# Altium schematic symbol library RC0603.SchLib: 789 symbols (part 5 of 11)
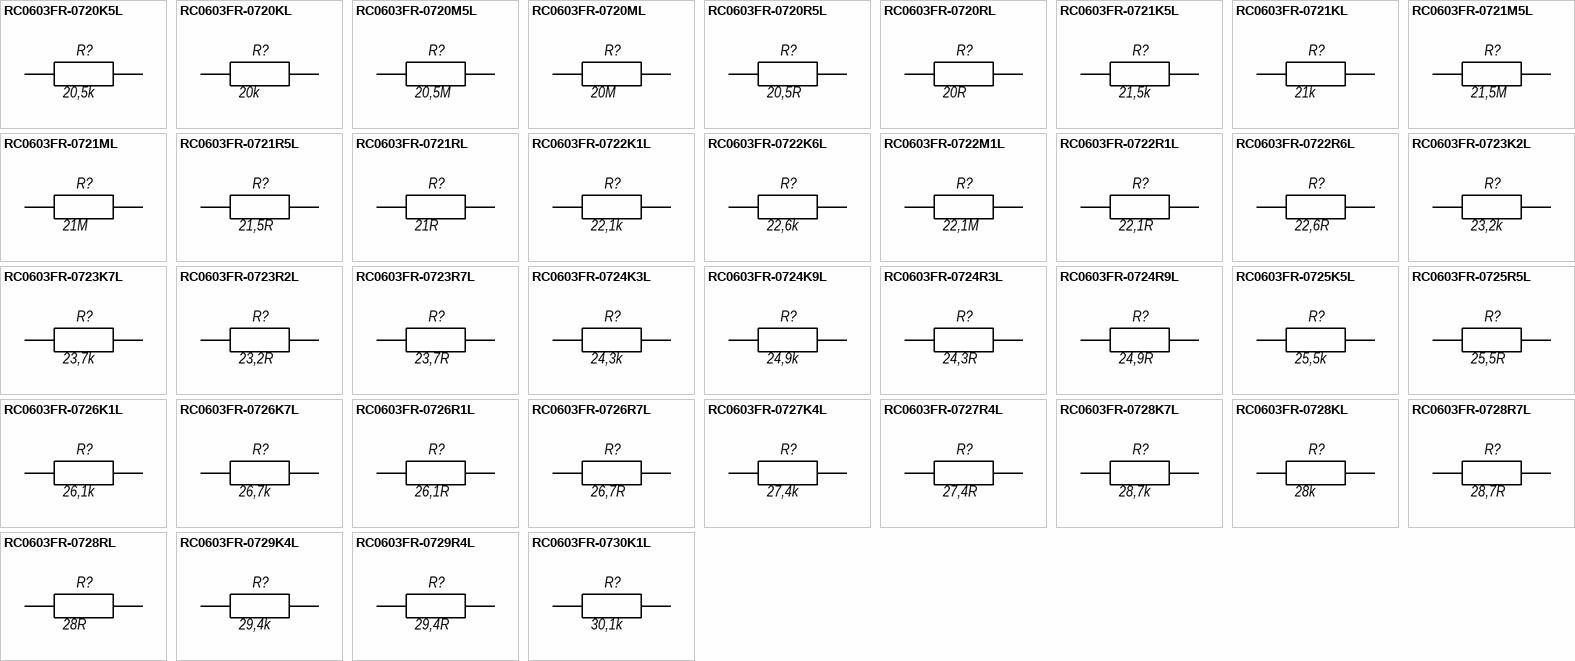
[diagram p23: symbols RC0603FR-0720K5L to RC0603FR-0730K1L]

## RC0603FR-0726R1L
designator R?, comment 26,1R
RC0603FR-0726R1L 0603 26.1 Ohm ±1% 1/10W 0603 SMD -55C...+155C; Manufacturer: Yageo; BOM2: 26,1 Ом ±1%, 1/10 Вт, SMD 0603, RC0603FR-0726R1L; ValueBOM: RC0603FR-0726R1L   Yageo                            (26,1 Ом ±1%, 1/10 Вт, SMD 0603, RC0603FR-0726R1L); Value: 26,1R; Part Number: RC0603FR-0726R1L; Package: 0603; BOM1: 26.1 Ohm ±1% 1/10W 0603 SMD
footprint RESC_0603_1608N (Chip Resistor, Body 1.6x0.8mm, IPC Medium Density)
footprint RESC_0603_1608M (Chip Resistor, Body 1.6x0.8mm, IPC Low Density)
footprint RESC_0603_1608L (Chip Resistor, Body 1.6x0.8mm, IPC High Density)
pins: 1, 2

## RC0603FR-0726R7L
designator R?, comment 26,7R
RC0603FR-0726R7L 0603 26.7 Ohm ±1% 1/10W 0603 SMD -55C...+155C; Manufacturer: Yageo; BOM2: 26,7 Ом ±1%, 1/10 Вт, SMD 0603, RC0603FR-0726R7L; ValueBOM: RC0603FR-0726R7L   Yageo                            (26,7 Ом ±1%, 1/10 Вт, SMD 0603, RC0603FR-0726R7L); Value: 26,7R; Part Number: RC0603FR-0726R7L; Package: 0603; BOM1: 26.7 Ohm ±1% 1/10W 0603 SMD
footprint RESC_0603_1608N (Chip Resistor, Body 1.6x0.8mm, IPC Medium Density)
footprint RESC_0603_1608M (Chip Resistor, Body 1.6x0.8mm, IPC Low Density)
footprint RESC_0603_1608L (Chip Resistor, Body 1.6x0.8mm, IPC High Density)
pins: 1, 2

## RC0603FR-0727K4L
designator R?, comment 27,4k
RC0603FR-0727K4L 0603 27.4 kOhm ±1% 1/10W 0603 SMD -55C...+155C; Manufacturer: Yageo; BOM2: 27,4 кОм ±1%, 1/10 Вт, SMD 0603, RC0603FR-0727K4L; ValueBOM: RC0603FR-0727K4L   Yageo                            (27,4 кОм ±1%, 1/10 Вт, SMD 0603, RC0603FR-0727K4L); Value: 27,4k; Part Number: RC0603FR-0727K4L; Package: 0603; BOM1: 27.4 kOhm ±1% 1/10W 0603 SMD
footprint RESC_0603_1608N (Chip Resistor, Body 1.6x0.8mm, IPC Medium Density)
footprint RESC_0603_1608M (Chip Resistor, Body 1.6x0.8mm, IPC Low Density)
footprint RESC_0603_1608L (Chip Resistor, Body 1.6x0.8mm, IPC High Density)
pins: 1, 2

## RC0603FR-0727R4L
designator R?, comment 27,4R
RC0603FR-0727R4L 0603 27.4 Ohm ±1% 1/10W 0603 SMD -55C...+155C; Manufacturer: Yageo; BOM2: 27,4 Ом ±1%, 1/10 Вт, SMD 0603, RC0603FR-0727R4L; ValueBOM: RC0603FR-0727R4L   Yageo                            (27,4 Ом ±1%, 1/10 Вт, SMD 0603, RC0603FR-0727R4L); Value: 27,4R; Part Number: RC0603FR-0727R4L; Package: 0603; BOM1: 27.4 Ohm ±1% 1/10W 0603 SMD
footprint RESC_0603_1608N (Chip Resistor, Body 1.6x0.8mm, IPC Medium Density)
footprint RESC_0603_1608M (Chip Resistor, Body 1.6x0.8mm, IPC Low Density)
footprint RESC_0603_1608L (Chip Resistor, Body 1.6x0.8mm, IPC High Density)
pins: 1, 2

## RC0603FR-0728K7L
designator R?, comment 28,7k
RC0603FR-0728K7L 0603 28.7 kOhm ±1% 1/10W 0603 SMD -55C...+155C; Manufacturer: Yageo; BOM2: 28,7 кОм ±1%, 1/10 Вт, SMD 0603, RC0603FR-0728K7L; ValueBOM: RC0603FR-0728K7L   Yageo                            (28,7 кОм ±1%, 1/10 Вт, SMD 0603, RC0603FR-0728K7L); Value: 28,7k; Part Number: RC0603FR-0728K7L; Package: 0603; BOM1: 28.7 kOhm ±1% 1/10W 0603 SMD
footprint RESC_0603_1608N (Chip Resistor, Body 1.6x0.8mm, IPC Medium Density)
footprint RESC_0603_1608M (Chip Resistor, Body 1.6x0.8mm, IPC Low Density)
footprint RESC_0603_1608L (Chip Resistor, Body 1.6x0.8mm, IPC High Density)
pins: 1, 2

## RC0603FR-0728KL
designator R?, comment 28k
RC0603FR-0728KL 0603 28 kOhm ±1% 1/10W 0603 SMD -55C...+155C; Manufacturer: Yageo; BOM2: 28 кОм ±1%, 1/10 Вт, SMD 0603, RC0603FR-0728KL; ValueBOM: RC0603FR-0728KL   Yageo                            (28 кОм ±1%, 1/10 Вт, SMD 0603, RC0603FR-0728KL); Value: 28k; Part Number: RC0603FR-0728KL; Package: 0603; BOM1: 28 kOhm ±1% 1/10W 0603 SMD
footprint RESC_0603_1608N (Chip Resistor, Body 1.6x0.8mm, IPC Medium Density)
footprint RESC_0603_1608M (Chip Resistor, Body 1.6x0.8mm, IPC Low Density)
footprint RESC_0603_1608L (Chip Resistor, Body 1.6x0.8mm, IPC High Density)
pins: 1, 2

## RC0603FR-0728R7L
designator R?, comment 28,7R
RC0603FR-0728R7L 0603 28.7 Ohm ±1% 1/10W 0603 SMD -55C...+155C; Manufacturer: Yageo; BOM2: 28,7 Ом ±1%, 1/10 Вт, SMD 0603, RC0603FR-0728R7L; ValueBOM: RC0603FR-0728R7L   Yageo                            (28,7 Ом ±1%, 1/10 Вт, SMD 0603, RC0603FR-0728R7L); Value: 28,7R; Part Number: RC0603FR-0728R7L; Package: 0603; BOM1: 28.7 Ohm ±1% 1/10W 0603 SMD
footprint RESC_0603_1608N (Chip Resistor, Body 1.6x0.8mm, IPC Medium Density)
footprint RESC_0603_1608M (Chip Resistor, Body 1.6x0.8mm, IPC Low Density)
footprint RESC_0603_1608L (Chip Resistor, Body 1.6x0.8mm, IPC High Density)
pins: 1, 2

## RC0603FR-0728RL
designator R?, comment 28R
RC0603FR-0728RL 0603 28 Ohm ±1% 1/10W 0603 SMD -55C...+155C; Manufacturer: Yageo; BOM2: 28 Ом ±1%, 1/10 Вт, SMD 0603, RC0603FR-0728RL; ValueBOM: RC0603FR-0728RL   Yageo                            (28 Ом ±1%, 1/10 Вт, SMD 0603, RC0603FR-0728RL); Value: 28R; Part Number: RC0603FR-0728RL; Package: 0603; BOM1: 28 Ohm ±1% 1/10W 0603 SMD
footprint RESC_0603_1608N (Chip Resistor, Body 1.6x0.8mm, IPC Medium Density)
footprint RESC_0603_1608M (Chip Resistor, Body 1.6x0.8mm, IPC Low Density)
footprint RESC_0603_1608L (Chip Resistor, Body 1.6x0.8mm, IPC High Density)
pins: 1, 2

## RC0603FR-0729K4L
designator R?, comment 29,4k
RC0603FR-0729K4L 0603 29.4 kOhm ±1% 1/10W 0603 SMD -55C...+155C; Manufacturer: Yageo; BOM2: 29,4 кОм ±1%, 1/10 Вт, SMD 0603, RC0603FR-0729K4L; ValueBOM: RC0603FR-0729K4L   Yageo                            (29,4 кОм ±1%, 1/10 Вт, SMD 0603, RC0603FR-0729K4L); Value: 29,4k; Part Number: RC0603FR-0729K4L; Package: 0603; BOM1: 29.4 kOhm ±1% 1/10W 0603 SMD
footprint RESC_0603_1608N (Chip Resistor, Body 1.6x0.8mm, IPC Medium Density)
footprint RESC_0603_1608M (Chip Resistor, Body 1.6x0.8mm, IPC Low Density)
footprint RESC_0603_1608L (Chip Resistor, Body 1.6x0.8mm, IPC High Density)
pins: 1, 2

## RC0603FR-0729R4L
designator R?, comment 29,4R
RC0603FR-0729R4L 0603 29.4 Ohm ±1% 1/10W 0603 SMD -55C...+155C; Manufacturer: Yageo; BOM2: 29,4 Ом ±1%, 1/10 Вт, SMD 0603, RC0603FR-0729R4L; ValueBOM: RC0603FR-0729R4L   Yageo                            (29,4 Ом ±1%, 1/10 Вт, SMD 0603, RC0603FR-0729R4L); Value: 29,4R; Part Number: RC0603FR-0729R4L; Package: 0603; BOM1: 29.4 Ohm ±1% 1/10W 0603 SMD
footprint RESC_0603_1608N (Chip Resistor, Body 1.6x0.8mm, IPC Medium Density)
footprint RESC_0603_1608M (Chip Resistor, Body 1.6x0.8mm, IPC Low Density)
footprint RESC_0603_1608L (Chip Resistor, Body 1.6x0.8mm, IPC High Density)
pins: 1, 2

## RC0603FR-0730K1L
designator R?, comment 30,1k
RC0603FR-0730K1L 0603 30.1 kOhm ±1% 1/10W 0603 SMD -55C...+155C; Manufacturer: Yageo; BOM2: 30,1 кОм ±1%, 1/10 Вт, SMD 0603, RC0603FR-0730K1L; ValueBOM: RC0603FR-0730K1L   Yageo                            (30,1 кОм ±1%, 1/10 Вт, SMD 0603, RC0603FR-0730K1L); Value: 30,1k; Part Number: RC0603FR-0730K1L; Package: 0603; BOM1: 30.1 kOhm ±1% 1/10W 0603 SMD
footprint RESC_0603_1608N (Chip Resistor, Body 1.6x0.8mm, IPC Medium Density)
footprint RESC_0603_1608M (Chip Resistor, Body 1.6x0.8mm, IPC Low Density)
footprint RESC_0603_1608L (Chip Resistor, Body 1.6x0.8mm, IPC High Density)
pins: 1, 2

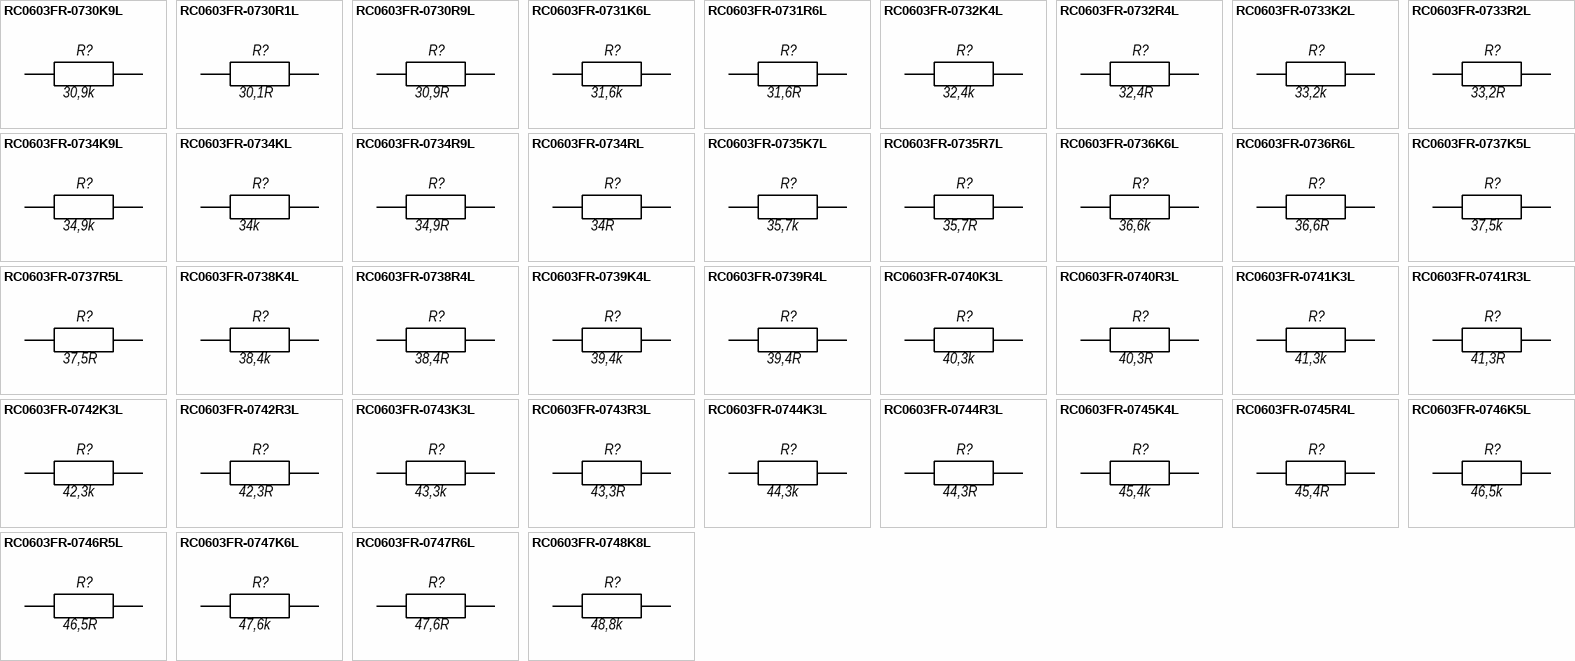
[diagram p8: symbols RC0603FR-0730K9L to RC0603FR-0748K8L]

## RC0603FR-0730K9L
designator R?, comment 30,9k
RC0603FR-0730K9L 0603 30.9 kOhm ±1% 1/10W 0603 SMD -55C...+155C; Manufacturer: Yageo; BOM2: 30,9 кОм ±1%, 1/10 Вт, SMD 0603, RC0603FR-0730K9L; ValueBOM: RC0603FR-0730K9L   Yageo                            (30,9 кОм ±1%, 1/10 Вт, SMD 0603, RC0603FR-0730K9L); Value: 30,9k; Part Number: RC0603FR-0730K9L; Package: 0603; BOM1: 30.9 kOhm ±1% 1/10W 0603 SMD
footprint RESC_0603_1608N (Chip Resistor, Body 1.6x0.8mm, IPC Medium Density)
footprint RESC_0603_1608M (Chip Resistor, Body 1.6x0.8mm, IPC Low Density)
footprint RESC_0603_1608L (Chip Resistor, Body 1.6x0.8mm, IPC High Density)
pins: 1, 2

## RC0603FR-0730R1L
designator R?, comment 30,1R
RC0603FR-0730R1L 0603 30.1 Ohm ±1% 1/10W 0603 SMD -55C...+155C; Manufacturer: Yageo; BOM2: 30,1 Ом ±1%, 1/10 Вт, SMD 0603, RC0603FR-0730R1L; ValueBOM: RC0603FR-0730R1L   Yageo                            (30,1 Ом ±1%, 1/10 Вт, SMD 0603, RC0603FR-0730R1L); Value: 30,1R; Part Number: RC0603FR-0730R1L; Package: 0603; BOM1: 30.1 Ohm ±1% 1/10W 0603 SMD
footprint RESC_0603_1608N (Chip Resistor, Body 1.6x0.8mm, IPC Medium Density)
footprint RESC_0603_1608M (Chip Resistor, Body 1.6x0.8mm, IPC Low Density)
footprint RESC_0603_1608L (Chip Resistor, Body 1.6x0.8mm, IPC High Density)
pins: 1, 2

## RC0603FR-0730R9L
designator R?, comment 30,9R
RC0603FR-0730R9L 0603 30.9 Ohm ±1% 1/10W 0603 SMD -55C...+155C; Manufacturer: Yageo; BOM2: 30,9 Ом ±1%, 1/10 Вт, SMD 0603, RC0603FR-0730R9L; ValueBOM: RC0603FR-0730R9L   Yageo                            (30,9 Ом ±1%, 1/10 Вт, SMD 0603, RC0603FR-0730R9L); Value: 30,9R; Part Number: RC0603FR-0730R9L; Package: 0603; BOM1: 30.9 Ohm ±1% 1/10W 0603 SMD
footprint RESC_0603_1608N (Chip Resistor, Body 1.6x0.8mm, IPC Medium Density)
footprint RESC_0603_1608M (Chip Resistor, Body 1.6x0.8mm, IPC Low Density)
footprint RESC_0603_1608L (Chip Resistor, Body 1.6x0.8mm, IPC High Density)
pins: 1, 2

## RC0603FR-0731K6L
designator R?, comment 31,6k
RC0603FR-0731K6L 0603 31.6 kOhm ±1% 1/10W 0603 SMD -55C...+155C; Manufacturer: Yageo; BOM2: 31,6 кОм ±1%, 1/10 Вт, SMD 0603, RC0603FR-0731K6L; ValueBOM: RC0603FR-0731K6L   Yageo                            (31,6 кОм ±1%, 1/10 Вт, SMD 0603, RC0603FR-0731K6L); Value: 31,6k; Part Number: RC0603FR-0731K6L; Package: 0603; BOM1: 31.6 kOhm ±1% 1/10W 0603 SMD
footprint RESC_0603_1608N (Chip Resistor, Body 1.6x0.8mm, IPC Medium Density)
footprint RESC_0603_1608M (Chip Resistor, Body 1.6x0.8mm, IPC Low Density)
footprint RESC_0603_1608L (Chip Resistor, Body 1.6x0.8mm, IPC High Density)
pins: 1, 2

## RC0603FR-0731R6L
designator R?, comment 31,6R
RC0603FR-0731R6L 0603 31.6 Ohm ±1% 1/10W 0603 SMD -55C...+155C; Manufacturer: Yageo; BOM2: 31,6 Ом ±1%, 1/10 Вт, SMD 0603, RC0603FR-0731R6L; ValueBOM: RC0603FR-0731R6L   Yageo                            (31,6 Ом ±1%, 1/10 Вт, SMD 0603, RC0603FR-0731R6L); Value: 31,6R; Part Number: RC0603FR-0731R6L; Package: 0603; BOM1: 31.6 Ohm ±1% 1/10W 0603 SMD
footprint RESC_0603_1608N (Chip Resistor, Body 1.6x0.8mm, IPC Medium Density)
footprint RESC_0603_1608M (Chip Resistor, Body 1.6x0.8mm, IPC Low Density)
footprint RESC_0603_1608L (Chip Resistor, Body 1.6x0.8mm, IPC High Density)
pins: 1, 2

## RC0603FR-0732K4L
designator R?, comment 32,4k
RC0603FR-0732K4L 0603 32.4 kOhm ±1% 1/10W 0603 SMD -55C...+155C; Manufacturer: Yageo; BOM2: 32,4 кОм ±1%, 1/10 Вт, SMD 0603, RC0603FR-0732K4L; ValueBOM: RC0603FR-0732K4L   Yageo                            (32,4 кОм ±1%, 1/10 Вт, SMD 0603, RC0603FR-0732K4L); Value: 32,4k; Part Number: RC0603FR-0732K4L; Package: 0603; BOM1: 32.4 kOhm ±1% 1/10W 0603 SMD
footprint RESC_0603_1608N (Chip Resistor, Body 1.6x0.8mm, IPC Medium Density)
footprint RESC_0603_1608M (Chip Resistor, Body 1.6x0.8mm, IPC Low Density)
footprint RESC_0603_1608L (Chip Resistor, Body 1.6x0.8mm, IPC High Density)
pins: 1, 2

## RC0603FR-0732R4L
designator R?, comment 32,4R
RC0603FR-0732R4L 0603 32.4 Ohm ±1% 1/10W 0603 SMD -55C...+155C; Manufacturer: Yageo; BOM2: 32,4 Ом ±1%, 1/10 Вт, SMD 0603, RC0603FR-0732R4L; ValueBOM: RC0603FR-0732R4L   Yageo                            (32,4 Ом ±1%, 1/10 Вт, SMD 0603, RC0603FR-0732R4L); Value: 32,4R; Part Number: RC0603FR-0732R4L; Package: 0603; BOM1: 32.4 Ohm ±1% 1/10W 0603 SMD
footprint RESC_0603_1608N (Chip Resistor, Body 1.6x0.8mm, IPC Medium Density)
footprint RESC_0603_1608M (Chip Resistor, Body 1.6x0.8mm, IPC Low Density)
footprint RESC_0603_1608L (Chip Resistor, Body 1.6x0.8mm, IPC High Density)
pins: 1, 2

## RC0603FR-0733K2L
designator R?, comment 33,2k
RC0603FR-0733K2L 0603 33.2 kOhm ±1% 1/10W 0603 SMD -55C...+155C; Manufacturer: Yageo; BOM2: 33,2 кОм ±1%, 1/10 Вт, SMD 0603, RC0603FR-0733K2L; ValueBOM: RC0603FR-0733K2L   Yageo                            (33,2 кОм ±1%, 1/10 Вт, SMD 0603, RC0603FR-0733K2L); Value: 33,2k; Part Number: RC0603FR-0733K2L; Package: 0603; BOM1: 33.2 kOhm ±1% 1/10W 0603 SMD
footprint RESC_0603_1608N (Chip Resistor, Body 1.6x0.8mm, IPC Medium Density)
footprint RESC_0603_1608M (Chip Resistor, Body 1.6x0.8mm, IPC Low Density)
footprint RESC_0603_1608L (Chip Resistor, Body 1.6x0.8mm, IPC High Density)
pins: 1, 2

## RC0603FR-0733R2L
designator R?, comment 33,2R
RC0603FR-0733R2L 0603 33.2 Ohm ±1% 1/10W 0603 SMD -55C...+155C; Manufacturer: Yageo; BOM2: 33,2 Ом ±1%, 1/10 Вт, SMD 0603, RC0603FR-0733R2L; ValueBOM: RC0603FR-0733R2L   Yageo                            (33,2 Ом ±1%, 1/10 Вт, SMD 0603, RC0603FR-0733R2L); Value: 33,2R; Part Number: RC0603FR-0733R2L; Package: 0603; BOM1: 33.2 Ohm ±1% 1/10W 0603 SMD
footprint RESC_0603_1608N (Chip Resistor, Body 1.6x0.8mm, IPC Medium Density)
footprint RESC_0603_1608M (Chip Resistor, Body 1.6x0.8mm, IPC Low Density)
footprint RESC_0603_1608L (Chip Resistor, Body 1.6x0.8mm, IPC High Density)
pins: 1, 2

## RC0603FR-0734K9L
designator R?, comment 34,9k
RC0603FR-0734K9L 0603 34.9 kOhm ±1% 1/10W 0603 SMD -55C...+155C; Manufacturer: Yageo; BOM2: 34,9 кОм ±1%, 1/10 Вт, SMD 0603, RC0603FR-0734K9L; ValueBOM: RC0603FR-0734K9L   Yageo                            (34,9 кОм ±1%, 1/10 Вт, SMD 0603, RC0603FR-0734K9L); Value: 34,9k; Part Number: RC0603FR-0734K9L; Package: 0603; BOM1: 34.9 kOhm ±1% 1/10W 0603 SMD
footprint RESC_0603_1608N (Chip Resistor, Body 1.6x0.8mm, IPC Medium Density)
footprint RESC_0603_1608M (Chip Resistor, Body 1.6x0.8mm, IPC Low Density)
footprint RESC_0603_1608L (Chip Resistor, Body 1.6x0.8mm, IPC High Density)
pins: 1, 2

## RC0603FR-0734KL
designator R?, comment 34k
RC0603FR-0734KL 0603 34 kOhm ±1% 1/10W 0603 SMD -55C...+155C; Manufacturer: Yageo; BOM2: 34 кОм ±1%, 1/10 Вт, SMD 0603, RC0603FR-0734KL; ValueBOM: RC0603FR-0734KL   Yageo                            (34 кОм ±1%, 1/10 Вт, SMD 0603, RC0603FR-0734KL); Value: 34k; Part Number: RC0603FR-0734KL; Package: 0603; BOM1: 34 kOhm ±1% 1/10W 0603 SMD
footprint RESC_0603_1608N (Chip Resistor, Body 1.6x0.8mm, IPC Medium Density)
footprint RESC_0603_1608M (Chip Resistor, Body 1.6x0.8mm, IPC Low Density)
footprint RESC_0603_1608L (Chip Resistor, Body 1.6x0.8mm, IPC High Density)
pins: 1, 2

## RC0603FR-0734R9L
designator R?, comment 34,9R
RC0603FR-0734R9L 0603 34.9 Ohm ±1% 1/10W 0603 SMD -55C...+155C; Manufacturer: Yageo; BOM2: 34,9 Ом ±1%, 1/10 Вт, SMD 0603, RC0603FR-0734R9L; ValueBOM: RC0603FR-0734R9L   Yageo                            (34,9 Ом ±1%, 1/10 Вт, SMD 0603, RC0603FR-0734R9L); Value: 34,9R; Part Number: RC0603FR-0734R9L; Package: 0603; BOM1: 34.9 Ohm ±1% 1/10W 0603 SMD
footprint RESC_0603_1608N (Chip Resistor, Body 1.6x0.8mm, IPC Medium Density)
footprint RESC_0603_1608M (Chip Resistor, Body 1.6x0.8mm, IPC Low Density)
footprint RESC_0603_1608L (Chip Resistor, Body 1.6x0.8mm, IPC High Density)
pins: 1, 2

## RC0603FR-0734RL
designator R?, comment 34R
RC0603FR-0734RL 0603 34 Ohm ±1% 1/10W 0603 SMD -55C...+155C; Manufacturer: Yageo; BOM2: 34 Ом ±1%, 1/10 Вт, SMD 0603, RC0603FR-0734RL; ValueBOM: RC0603FR-0734RL   Yageo                            (34 Ом ±1%, 1/10 Вт, SMD 0603, RC0603FR-0734RL); Value: 34R; Part Number: RC0603FR-0734RL; Package: 0603; BOM1: 34 Ohm ±1% 1/10W 0603 SMD
footprint RESC_0603_1608N (Chip Resistor, Body 1.6x0.8mm, IPC Medium Density)
footprint RESC_0603_1608M (Chip Resistor, Body 1.6x0.8mm, IPC Low Density)
footprint RESC_0603_1608L (Chip Resistor, Body 1.6x0.8mm, IPC High Density)
pins: 1, 2

## RC0603FR-0735K7L
designator R?, comment 35,7k
RC0603FR-0735K7L 0603 35.7 kOhm ±1% 1/10W 0603 SMD -55C...+155C; Manufacturer: Yageo; BOM2: 35,7 кОм ±1%, 1/10 Вт, SMD 0603, RC0603FR-0735K7L; ValueBOM: RC0603FR-0735K7L   Yageo                            (35,7 кОм ±1%, 1/10 Вт, SMD 0603, RC0603FR-0735K7L); Value: 35,7k; Part Number: RC0603FR-0735K7L; Package: 0603; BOM1: 35.7 kOhm ±1% 1/10W 0603 SMD
footprint RESC_0603_1608N (Chip Resistor, Body 1.6x0.8mm, IPC Medium Density)
footprint RESC_0603_1608M (Chip Resistor, Body 1.6x0.8mm, IPC Low Density)
footprint RESC_0603_1608L (Chip Resistor, Body 1.6x0.8mm, IPC High Density)
pins: 1, 2

## RC0603FR-0735R7L
designator R?, comment 35,7R
RC0603FR-0735R7L 0603 35.7 Ohm ±1% 1/10W 0603 SMD -55C...+155C; Manufacturer: Yageo; BOM2: 35,7 Ом ±1%, 1/10 Вт, SMD 0603, RC0603FR-0735R7L; ValueBOM: RC0603FR-0735R7L   Yageo                            (35,7 Ом ±1%, 1/10 Вт, SMD 0603, RC0603FR-0735R7L); Value: 35,7R; Part Number: RC0603FR-0735R7L; Package: 0603; BOM1: 35.7 Ohm ±1% 1/10W 0603 SMD
footprint RESC_0603_1608N (Chip Resistor, Body 1.6x0.8mm, IPC Medium Density)
footprint RESC_0603_1608M (Chip Resistor, Body 1.6x0.8mm, IPC Low Density)
footprint RESC_0603_1608L (Chip Resistor, Body 1.6x0.8mm, IPC High Density)
pins: 1, 2

## RC0603FR-0736K6L
designator R?, comment 36,6k
RC0603FR-0736K6L 0603 36.6 kOhm ±1% 1/10W 0603 SMD -55C...+155C; Manufacturer: Yageo; BOM2: 36,6 кОм ±1%, 1/10 Вт, SMD 0603, RC0603FR-0736K6L; ValueBOM: RC0603FR-0736K6L   Yageo                            (36,6 кОм ±1%, 1/10 Вт, SMD 0603, RC0603FR-0736K6L); Value: 36,6k; Part Number: RC0603FR-0736K6L; Package: 0603; BOM1: 36.6 kOhm ±1% 1/10W 0603 SMD
footprint RESC_0603_1608N (Chip Resistor, Body 1.6x0.8mm, IPC Medium Density)
footprint RESC_0603_1608M (Chip Resistor, Body 1.6x0.8mm, IPC Low Density)
footprint RESC_0603_1608L (Chip Resistor, Body 1.6x0.8mm, IPC High Density)
pins: 1, 2

## RC0603FR-0736R6L
designator R?, comment 36,6R
RC0603FR-0736R6L 0603 36.6 Ohm ±1% 1/10W 0603 SMD -55C...+155C; Manufacturer: Yageo; BOM2: 36,6 Ом ±1%, 1/10 Вт, SMD 0603, RC0603FR-0736R6L; ValueBOM: RC0603FR-0736R6L   Yageo                            (36,6 Ом ±1%, 1/10 Вт, SMD 0603, RC0603FR-0736R6L); Value: 36,6R; Part Number: RC0603FR-0736R6L; Package: 0603; BOM1: 36.6 Ohm ±1% 1/10W 0603 SMD
footprint RESC_0603_1608N (Chip Resistor, Body 1.6x0.8mm, IPC Medium Density)
footprint RESC_0603_1608M (Chip Resistor, Body 1.6x0.8mm, IPC Low Density)
footprint RESC_0603_1608L (Chip Resistor, Body 1.6x0.8mm, IPC High Density)
pins: 1, 2

## RC0603FR-0737K5L
designator R?, comment 37,5k
RC0603FR-0737K5L 0603 37.5 kOhm ±1% 1/10W 0603 SMD -55C...+155C; Manufacturer: Yageo; BOM2: 37,5 кОм ±1%, 1/10 Вт, SMD 0603, RC0603FR-0737K5L; ValueBOM: RC0603FR-0737K5L   Yageo                            (37,5 кОм ±1%, 1/10 Вт, SMD 0603, RC0603FR-0737K5L); Value: 37,5k; Part Number: RC0603FR-0737K5L; Package: 0603; BOM1: 37.5 kOhm ±1% 1/10W 0603 SMD
footprint RESC_0603_1608N (Chip Resistor, Body 1.6x0.8mm, IPC Medium Density)
footprint RESC_0603_1608M (Chip Resistor, Body 1.6x0.8mm, IPC Low Density)
footprint RESC_0603_1608L (Chip Resistor, Body 1.6x0.8mm, IPC High Density)
pins: 1, 2

## RC0603FR-0737R5L
designator R?, comment 37,5R
RC0603FR-0737R5L 0603 37.5 Ohm ±1% 1/10W 0603 SMD -55C...+155C; Manufacturer: Yageo; BOM2: 37,5 Ом ±1%, 1/10 Вт, SMD 0603, RC0603FR-0737R5L; ValueBOM: RC0603FR-0737R5L   Yageo                            (37,5 Ом ±1%, 1/10 Вт, SMD 0603, RC0603FR-0737R5L); Value: 37,5R; Part Number: RC0603FR-0737R5L; Package: 0603; BOM1: 37.5 Ohm ±1% 1/10W 0603 SMD
footprint RESC_0603_1608N (Chip Resistor, Body 1.6x0.8mm, IPC Medium Density)
footprint RESC_0603_1608M (Chip Resistor, Body 1.6x0.8mm, IPC Low Density)
footprint RESC_0603_1608L (Chip Resistor, Body 1.6x0.8mm, IPC High Density)
pins: 1, 2

## RC0603FR-0738K4L
designator R?, comment 38,4k
RC0603FR-0738K4L 0603 38.4 kOhm ±1% 1/10W 0603 SMD -55C...+155C; Manufacturer: Yageo; BOM2: 38,4 кОм ±1%, 1/10 Вт, SMD 0603, RC0603FR-0738K4L; ValueBOM: RC0603FR-0738K4L   Yageo                            (38,4 кОм ±1%, 1/10 Вт, SMD 0603, RC0603FR-0738K4L); Value: 38,4k; Part Number: RC0603FR-0738K4L; Package: 0603; BOM1: 38.4 kOhm ±1% 1/10W 0603 SMD
footprint RESC_0603_1608N (Chip Resistor, Body 1.6x0.8mm, IPC Medium Density)
footprint RESC_0603_1608M (Chip Resistor, Body 1.6x0.8mm, IPC Low Density)
footprint RESC_0603_1608L (Chip Resistor, Body 1.6x0.8mm, IPC High Density)
pins: 1, 2

## RC0603FR-0738R4L
designator R?, comment 38,4R
RC0603FR-0738R4L 0603 38.4 Ohm ±1% 1/10W 0603 SMD -55C...+155C; Manufacturer: Yageo; BOM2: 38,4 Ом ±1%, 1/10 Вт, SMD 0603, RC0603FR-0738R4L; ValueBOM: RC0603FR-0738R4L   Yageo                            (38,4 Ом ±1%, 1/10 Вт, SMD 0603, RC0603FR-0738R4L); Value: 38,4R; Part Number: RC0603FR-0738R4L; Package: 0603; BOM1: 38.4 Ohm ±1% 1/10W 0603 SMD
footprint RESC_0603_1608N (Chip Resistor, Body 1.6x0.8mm, IPC Medium Density)
footprint RESC_0603_1608M (Chip Resistor, Body 1.6x0.8mm, IPC Low Density)
footprint RESC_0603_1608L (Chip Resistor, Body 1.6x0.8mm, IPC High Density)
pins: 1, 2

## RC0603FR-0739K4L
designator R?, comment 39,4k
RC0603FR-0739K4L 0603 39.4 kOhm ±1% 1/10W 0603 SMD -55C...+155C; Manufacturer: Yageo; BOM2: 39,4 кОм ±1%, 1/10 Вт, SMD 0603, RC0603FR-0739K4L; ValueBOM: RC0603FR-0739K4L   Yageo                            (39,4 кОм ±1%, 1/10 Вт, SMD 0603, RC0603FR-0739K4L); Value: 39,4k; Part Number: RC0603FR-0739K4L; Package: 0603; BOM1: 39.4 kOhm ±1% 1/10W 0603 SMD
footprint RESC_0603_1608N (Chip Resistor, Body 1.6x0.8mm, IPC Medium Density)
footprint RESC_0603_1608M (Chip Resistor, Body 1.6x0.8mm, IPC Low Density)
footprint RESC_0603_1608L (Chip Resistor, Body 1.6x0.8mm, IPC High Density)
pins: 1, 2

## RC0603FR-0739R4L
designator R?, comment 39,4R
RC0603FR-0739R4L 0603 39.4 Ohm ±1% 1/10W 0603 SMD -55C...+155C; Manufacturer: Yageo; BOM2: 39,4 Ом ±1%, 1/10 Вт, SMD 0603, RC0603FR-0739R4L; ValueBOM: RC0603FR-0739R4L   Yageo                            (39,4 Ом ±1%, 1/10 Вт, SMD 0603, RC0603FR-0739R4L); Value: 39,4R; Part Number: RC0603FR-0739R4L; Package: 0603; BOM1: 39.4 Ohm ±1% 1/10W 0603 SMD
footprint RESC_0603_1608N (Chip Resistor, Body 1.6x0.8mm, IPC Medium Density)
footprint RESC_0603_1608M (Chip Resistor, Body 1.6x0.8mm, IPC Low Density)
footprint RESC_0603_1608L (Chip Resistor, Body 1.6x0.8mm, IPC High Density)
pins: 1, 2

## RC0603FR-0740K3L
designator R?, comment 40,3k
RC0603FR-0740K3L 0603 40.3 kOhm ±1% 1/10W 0603 SMD -55C...+155C; Manufacturer: Yageo; BOM2: 40,3 кОм ±1%, 1/10 Вт, SMD 0603, RC0603FR-0740K3L; ValueBOM: RC0603FR-0740K3L   Yageo                            (40,3 кОм ±1%, 1/10 Вт, SMD 0603, RC0603FR-0740K3L); Value: 40,3k; Part Number: RC0603FR-0740K3L; Package: 0603; BOM1: 40.3 kOhm ±1% 1/10W 0603 SMD
footprint RESC_0603_1608N (Chip Resistor, Body 1.6x0.8mm, IPC Medium Density)
footprint RESC_0603_1608M (Chip Resistor, Body 1.6x0.8mm, IPC Low Density)
footprint RESC_0603_1608L (Chip Resistor, Body 1.6x0.8mm, IPC High Density)
pins: 1, 2

## RC0603FR-0740R3L
designator R?, comment 40,3R
RC0603FR-0740R3L 0603 40.3 Ohm ±1% 1/10W 0603 SMD -55C...+155C; Manufacturer: Yageo; BOM2: 40,3 Ом ±1%, 1/10 Вт, SMD 0603, RC0603FR-0740R3L; ValueBOM: RC0603FR-0740R3L   Yageo                            (40,3 Ом ±1%, 1/10 Вт, SMD 0603, RC0603FR-0740R3L); Value: 40,3R; Part Number: RC0603FR-0740R3L; Package: 0603; BOM1: 40.3 Ohm ±1% 1/10W 0603 SMD
footprint RESC_0603_1608N (Chip Resistor, Body 1.6x0.8mm, IPC Medium Density)
footprint RESC_0603_1608M (Chip Resistor, Body 1.6x0.8mm, IPC Low Density)
footprint RESC_0603_1608L (Chip Resistor, Body 1.6x0.8mm, IPC High Density)
pins: 1, 2

## RC0603FR-0741K3L
designator R?, comment 41,3k
RC0603FR-0741K3L 0603 41.3 kOhm ±1% 1/10W 0603 SMD -55C...+155C; Manufacturer: Yageo; BOM2: 41,3 кОм ±1%, 1/10 Вт, SMD 0603, RC0603FR-0741K3L; ValueBOM: RC0603FR-0741K3L   Yageo                            (41,3 кОм ±1%, 1/10 Вт, SMD 0603, RC0603FR-0741K3L); Value: 41,3k; Part Number: RC0603FR-0741K3L; Package: 0603; BOM1: 41.3 kOhm ±1% 1/10W 0603 SMD
footprint RESC_0603_1608N (Chip Resistor, Body 1.6x0.8mm, IPC Medium Density)
footprint RESC_0603_1608M (Chip Resistor, Body 1.6x0.8mm, IPC Low Density)
footprint RESC_0603_1608L (Chip Resistor, Body 1.6x0.8mm, IPC High Density)
pins: 1, 2

## RC0603FR-0741R3L
designator R?, comment 41,3R
RC0603FR-0741R3L 0603 41.3 Ohm ±1% 1/10W 0603 SMD -55C...+155C; Manufacturer: Yageo; BOM2: 41,3 Ом ±1%, 1/10 Вт, SMD 0603, RC0603FR-0741R3L; ValueBOM: RC0603FR-0741R3L   Yageo                            (41,3 Ом ±1%, 1/10 Вт, SMD 0603, RC0603FR-0741R3L); Value: 41,3R; Part Number: RC0603FR-0741R3L; Package: 0603; BOM1: 41.3 Ohm ±1% 1/10W 0603 SMD
footprint RESC_0603_1608N (Chip Resistor, Body 1.6x0.8mm, IPC Medium Density)
footprint RESC_0603_1608M (Chip Resistor, Body 1.6x0.8mm, IPC Low Density)
footprint RESC_0603_1608L (Chip Resistor, Body 1.6x0.8mm, IPC High Density)
pins: 1, 2

## RC0603FR-0742K3L
designator R?, comment 42,3k
RC0603FR-0742K3L 0603 42.3 kOhm ±1% 1/10W 0603 SMD -55C...+155C; Manufacturer: Yageo; BOM2: 42,3 кОм ±1%, 1/10 Вт, SMD 0603, RC0603FR-0742K3L; ValueBOM: RC0603FR-0742K3L   Yageo                            (42,3 кОм ±1%, 1/10 Вт, SMD 0603, RC0603FR-0742K3L); Value: 42,3k; Part Number: RC0603FR-0742K3L; Package: 0603; BOM1: 42.3 kOhm ±1% 1/10W 0603 SMD
footprint RESC_0603_1608N (Chip Resistor, Body 1.6x0.8mm, IPC Medium Density)
footprint RESC_0603_1608M (Chip Resistor, Body 1.6x0.8mm, IPC Low Density)
footprint RESC_0603_1608L (Chip Resistor, Body 1.6x0.8mm, IPC High Density)
pins: 1, 2

## RC0603FR-0742R3L
designator R?, comment 42,3R
RC0603FR-0742R3L 0603 42.3 Ohm ±1% 1/10W 0603 SMD -55C...+155C; Manufacturer: Yageo; BOM2: 42,3 Ом ±1%, 1/10 Вт, SMD 0603, RC0603FR-0742R3L; ValueBOM: RC0603FR-0742R3L   Yageo                            (42,3 Ом ±1%, 1/10 Вт, SMD 0603, RC0603FR-0742R3L); Value: 42,3R; Part Number: RC0603FR-0742R3L; Package: 0603; BOM1: 42.3 Ohm ±1% 1/10W 0603 SMD
footprint RESC_0603_1608N (Chip Resistor, Body 1.6x0.8mm, IPC Medium Density)
footprint RESC_0603_1608M (Chip Resistor, Body 1.6x0.8mm, IPC Low Density)
footprint RESC_0603_1608L (Chip Resistor, Body 1.6x0.8mm, IPC High Density)
pins: 1, 2

## RC0603FR-0743K3L
designator R?, comment 43,3k
RC0603FR-0743K3L 0603 43.3 kOhm ±1% 1/10W 0603 SMD -55C...+155C; Manufacturer: Yageo; BOM2: 43,3 кОм ±1%, 1/10 Вт, SMD 0603, RC0603FR-0743K3L; ValueBOM: RC0603FR-0743K3L   Yageo                            (43,3 кОм ±1%, 1/10 Вт, SMD 0603, RC0603FR-0743K3L); Value: 43,3k; Part Number: RC0603FR-0743K3L; Package: 0603; BOM1: 43.3 kOhm ±1% 1/10W 0603 SMD
footprint RESC_0603_1608N (Chip Resistor, Body 1.6x0.8mm, IPC Medium Density)
footprint RESC_0603_1608M (Chip Resistor, Body 1.6x0.8mm, IPC Low Density)
footprint RESC_0603_1608L (Chip Resistor, Body 1.6x0.8mm, IPC High Density)
pins: 1, 2

## RC0603FR-0743R3L
designator R?, comment 43,3R
RC0603FR-0743R3L 0603 43.3 Ohm ±1% 1/10W 0603 SMD -55C...+155C; Manufacturer: Yageo; BOM2: 43,3 Ом ±1%, 1/10 Вт, SMD 0603, RC0603FR-0743R3L; ValueBOM: RC0603FR-0743R3L   Yageo                            (43,3 Ом ±1%, 1/10 Вт, SMD 0603, RC0603FR-0743R3L); Value: 43,3R; Part Number: RC0603FR-0743R3L; Package: 0603; BOM1: 43.3 Ohm ±1% 1/10W 0603 SMD
footprint RESC_0603_1608N (Chip Resistor, Body 1.6x0.8mm, IPC Medium Density)
footprint RESC_0603_1608M (Chip Resistor, Body 1.6x0.8mm, IPC Low Density)
footprint RESC_0603_1608L (Chip Resistor, Body 1.6x0.8mm, IPC High Density)
pins: 1, 2

## RC0603FR-0744K3L
designator R?, comment 44,3k
RC0603FR-0744K3L 0603 44.3 kOhm ±1% 1/10W 0603 SMD -55C...+155C; Manufacturer: Yageo; BOM2: 44,3 кОм ±1%, 1/10 Вт, SMD 0603, RC0603FR-0744K3L; ValueBOM: RC0603FR-0744K3L   Yageo                            (44,3 кОм ±1%, 1/10 Вт, SMD 0603, RC0603FR-0744K3L); Value: 44,3k; Part Number: RC0603FR-0744K3L; Package: 0603; BOM1: 44.3 kOhm ±1% 1/10W 0603 SMD
footprint RESC_0603_1608N (Chip Resistor, Body 1.6x0.8mm, IPC Medium Density)
footprint RESC_0603_1608M (Chip Resistor, Body 1.6x0.8mm, IPC Low Density)
footprint RESC_0603_1608L (Chip Resistor, Body 1.6x0.8mm, IPC High Density)
pins: 1, 2

## RC0603FR-0744R3L
designator R?, comment 44,3R
RC0603FR-0744R3L 0603 44.3 Ohm ±1% 1/10W 0603 SMD -55C...+155C; Manufacturer: Yageo; BOM2: 44,3 Ом ±1%, 1/10 Вт, SMD 0603, RC0603FR-0744R3L; ValueBOM: RC0603FR-0744R3L   Yageo                            (44,3 Ом ±1%, 1/10 Вт, SMD 0603, RC0603FR-0744R3L); Value: 44,3R; Part Number: RC0603FR-0744R3L; Package: 0603; BOM1: 44.3 Ohm ±1% 1/10W 0603 SMD
footprint RESC_0603_1608N (Chip Resistor, Body 1.6x0.8mm, IPC Medium Density)
footprint RESC_0603_1608M (Chip Resistor, Body 1.6x0.8mm, IPC Low Density)
footprint RESC_0603_1608L (Chip Resistor, Body 1.6x0.8mm, IPC High Density)
pins: 1, 2

## RC0603FR-0745K4L
designator R?, comment 45,4k
RC0603FR-0745K4L 0603 45.4 kOhm ±1% 1/10W 0603 SMD -55C...+155C; Manufacturer: Yageo; BOM2: 45,4 кОм ±1%, 1/10 Вт, SMD 0603, RC0603FR-0745K4L; ValueBOM: RC0603FR-0745K4L   Yageo                            (45,4 кОм ±1%, 1/10 Вт, SMD 0603, RC0603FR-0745K4L); Value: 45,4k; Part Number: RC0603FR-0745K4L; Package: 0603; BOM1: 45.4 kOhm ±1% 1/10W 0603 SMD
footprint RESC_0603_1608N (Chip Resistor, Body 1.6x0.8mm, IPC Medium Density)
footprint RESC_0603_1608M (Chip Resistor, Body 1.6x0.8mm, IPC Low Density)
footprint RESC_0603_1608L (Chip Resistor, Body 1.6x0.8mm, IPC High Density)
pins: 1, 2

## RC0603FR-0745R4L
designator R?, comment 45,4R
RC0603FR-0745R4L 0603 45.4 Ohm ±1% 1/10W 0603 SMD -55C...+155C; Manufacturer: Yageo; BOM2: 45,4 Ом ±1%, 1/10 Вт, SMD 0603, RC0603FR-0745R4L; ValueBOM: RC0603FR-0745R4L   Yageo                            (45,4 Ом ±1%, 1/10 Вт, SMD 0603, RC0603FR-0745R4L); Value: 45,4R; Part Number: RC0603FR-0745R4L; Package: 0603; BOM1: 45.4 Ohm ±1% 1/10W 0603 SMD
footprint RESC_0603_1608N (Chip Resistor, Body 1.6x0.8mm, IPC Medium Density)
footprint RESC_0603_1608M (Chip Resistor, Body 1.6x0.8mm, IPC Low Density)
footprint RESC_0603_1608L (Chip Resistor, Body 1.6x0.8mm, IPC High Density)
pins: 1, 2

## RC0603FR-0746K5L
designator R?, comment 46,5k
RC0603FR-0746K5L 0603 46.5 kOhm ±1% 1/10W 0603 SMD -55C...+155C; Manufacturer: Yageo; BOM2: 46,5 кОм ±1%, 1/10 Вт, SMD 0603, RC0603FR-0746K5L; ValueBOM: RC0603FR-0746K5L   Yageo                            (46,5 кОм ±1%, 1/10 Вт, SMD 0603, RC0603FR-0746K5L); Value: 46,5k; Part Number: RC0603FR-0746K5L; Package: 0603; BOM1: 46.5 kOhm ±1% 1/10W 0603 SMD
footprint RESC_0603_1608N (Chip Resistor, Body 1.6x0.8mm, IPC Medium Density)
footprint RESC_0603_1608M (Chip Resistor, Body 1.6x0.8mm, IPC Low Density)
footprint RESC_0603_1608L (Chip Resistor, Body 1.6x0.8mm, IPC High Density)
pins: 1, 2

## RC0603FR-0746R5L
designator R?, comment 46,5R
RC0603FR-0746R5L 0603 46.5 Ohm ±1% 1/10W 0603 SMD -55C...+155C; Manufacturer: Yageo; BOM2: 46,5 Ом ±1%, 1/10 Вт, SMD 0603, RC0603FR-0746R5L; ValueBOM: RC0603FR-0746R5L   Yageo                            (46,5 Ом ±1%, 1/10 Вт, SMD 0603, RC0603FR-0746R5L); Value: 46,5R; Part Number: RC0603FR-0746R5L; Package: 0603; BOM1: 46.5 Ohm ±1% 1/10W 0603 SMD
footprint RESC_0603_1608N (Chip Resistor, Body 1.6x0.8mm, IPC Medium Density)
footprint RESC_0603_1608M (Chip Resistor, Body 1.6x0.8mm, IPC Low Density)
footprint RESC_0603_1608L (Chip Resistor, Body 1.6x0.8mm, IPC High Density)
pins: 1, 2

## RC0603FR-0747K6L
designator R?, comment 47,6k
RC0603FR-0747K6L 0603 47.6 kOhm ±1% 1/10W 0603 SMD -55C...+155C; Manufacturer: Yageo; BOM2: 47,6 кОм ±1%, 1/10 Вт, SMD 0603, RC0603FR-0747K6L; ValueBOM: RC0603FR-0747K6L   Yageo                            (47,6 кОм ±1%, 1/10 Вт, SMD 0603, RC0603FR-0747K6L); Value: 47,6k; Part Number: RC0603FR-0747K6L; Package: 0603; BOM1: 47.6 kOhm ±1% 1/10W 0603 SMD
footprint RESC_0603_1608N (Chip Resistor, Body 1.6x0.8mm, IPC Medium Density)
footprint RESC_0603_1608M (Chip Resistor, Body 1.6x0.8mm, IPC Low Density)
footprint RESC_0603_1608L (Chip Resistor, Body 1.6x0.8mm, IPC High Density)
pins: 1, 2

## RC0603FR-0747R6L
designator R?, comment 47,6R
RC0603FR-0747R6L 0603 47.6 Ohm ±1% 1/10W 0603 SMD -55C...+155C; Manufacturer: Yageo; BOM2: 47,6 Ом ±1%, 1/10 Вт, SMD 0603, RC0603FR-0747R6L; ValueBOM: RC0603FR-0747R6L   Yageo                            (47,6 Ом ±1%, 1/10 Вт, SMD 0603, RC0603FR-0747R6L); Value: 47,6R; Part Number: RC0603FR-0747R6L; Package: 0603; BOM1: 47.6 Ohm ±1% 1/10W 0603 SMD
footprint RESC_0603_1608N (Chip Resistor, Body 1.6x0.8mm, IPC Medium Density)
footprint RESC_0603_1608M (Chip Resistor, Body 1.6x0.8mm, IPC Low Density)
footprint RESC_0603_1608L (Chip Resistor, Body 1.6x0.8mm, IPC High Density)
pins: 1, 2

## RC0603FR-0748K8L
designator R?, comment 48,8k
RC0603FR-0748K8L 0603 48.8 kOhm ±1% 1/10W 0603 SMD -55C...+155C; Manufacturer: Yageo; BOM2: 48,8 кОм ±1%, 1/10 Вт, SMD 0603, RC0603FR-0748K8L; ValueBOM: RC0603FR-0748K8L   Yageo                            (48,8 кОм ±1%, 1/10 Вт, SMD 0603, RC0603FR-0748K8L); Value: 48,8k; Part Number: RC0603FR-0748K8L; Package: 0603; BOM1: 48.8 kOhm ±1% 1/10W 0603 SMD
footprint RESC_0603_1608N (Chip Resistor, Body 1.6x0.8mm, IPC Medium Density)
footprint RESC_0603_1608M (Chip Resistor, Body 1.6x0.8mm, IPC Low Density)
footprint RESC_0603_1608L (Chip Resistor, Body 1.6x0.8mm, IPC High Density)
pins: 1, 2

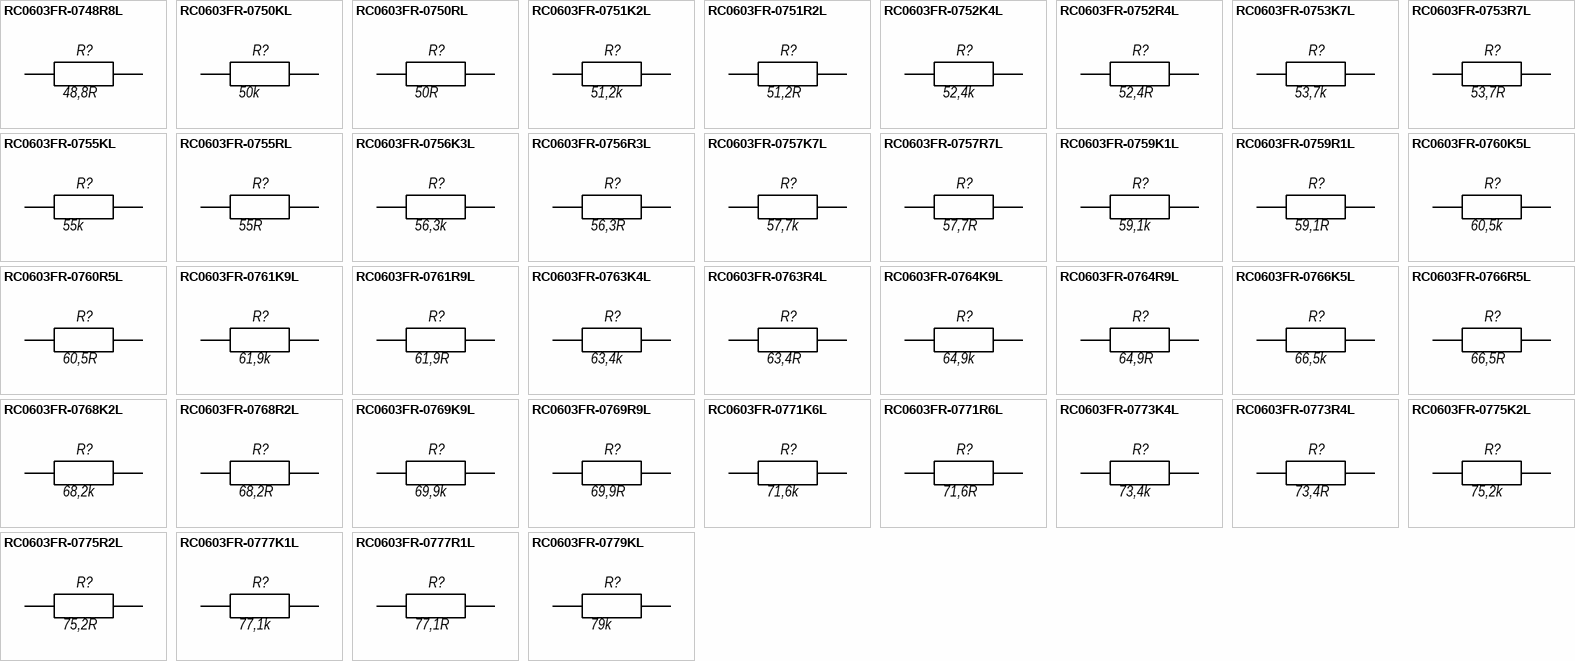
[diagram p9: symbols RC0603FR-0748R8L to RC0603FR-0779KL]

## RC0603FR-0748R8L
designator R?, comment 48,8R
RC0603FR-0748R8L 0603 48.8 Ohm ±1% 1/10W 0603 SMD -55C...+155C; Manufacturer: Yageo; BOM2: 48,8 Ом ±1%, 1/10 Вт, SMD 0603, RC0603FR-0748R8L; ValueBOM: RC0603FR-0748R8L   Yageo                            (48,8 Ом ±1%, 1/10 Вт, SMD 0603, RC0603FR-0748R8L); Value: 48,8R; Part Number: RC0603FR-0748R8L; Package: 0603; BOM1: 48.8 Ohm ±1% 1/10W 0603 SMD
footprint RESC_0603_1608N (Chip Resistor, Body 1.6x0.8mm, IPC Medium Density)
footprint RESC_0603_1608M (Chip Resistor, Body 1.6x0.8mm, IPC Low Density)
footprint RESC_0603_1608L (Chip Resistor, Body 1.6x0.8mm, IPC High Density)
pins: 1, 2

## RC0603FR-0750KL
designator R?, comment 50k
RC0603FR-0750KL 0603 50 kOhm ±1% 1/10W 0603 SMD -55C...+155C; Manufacturer: Yageo; BOM2: 50 кОм ±1%, 1/10 Вт, SMD 0603, RC0603FR-0750KL; ValueBOM: RC0603FR-0750KL   Yageo                            (50 кОм ±1%, 1/10 Вт, SMD 0603, RC0603FR-0750KL); Value: 50k; Part Number: RC0603FR-0750KL; Package: 0603; BOM1: 50 kOhm ±1% 1/10W 0603 SMD
footprint RESC_0603_1608N (Chip Resistor, Body 1.6x0.8mm, IPC Medium Density)
footprint RESC_0603_1608M (Chip Resistor, Body 1.6x0.8mm, IPC Low Density)
footprint RESC_0603_1608L (Chip Resistor, Body 1.6x0.8mm, IPC High Density)
pins: 1, 2

## RC0603FR-0750RL
designator R?, comment 50R
RC0603FR-0750RL 0603 50 Ohm ±1% 1/10W 0603 SMD -55C...+155C; Manufacturer: Yageo; BOM2: 50 Ом ±1%, 1/10 Вт, SMD 0603, RC0603FR-0750RL; ValueBOM: RC0603FR-0750RL   Yageo                            (50 Ом ±1%, 1/10 Вт, SMD 0603, RC0603FR-0750RL); Value: 50R; Part Number: RC0603FR-0750RL; Package: 0603; BOM1: 50 Ohm ±1% 1/10W 0603 SMD
footprint RESC_0603_1608N (Chip Resistor, Body 1.6x0.8mm, IPC Medium Density)
footprint RESC_0603_1608M (Chip Resistor, Body 1.6x0.8mm, IPC Low Density)
footprint RESC_0603_1608L (Chip Resistor, Body 1.6x0.8mm, IPC High Density)
pins: 1, 2

## RC0603FR-0751K2L
designator R?, comment 51,2k
RC0603FR-0751K2L 0603 51.2 kOhm ±1% 1/10W 0603 SMD -55C...+155C; Manufacturer: Yageo; BOM2: 51,2 кОм ±1%, 1/10 Вт, SMD 0603, RC0603FR-0751K2L; ValueBOM: RC0603FR-0751K2L   Yageo                            (51,2 кОм ±1%, 1/10 Вт, SMD 0603, RC0603FR-0751K2L); Value: 51,2k; Part Number: RC0603FR-0751K2L; Package: 0603; BOM1: 51.2 kOhm ±1% 1/10W 0603 SMD
footprint RESC_0603_1608N (Chip Resistor, Body 1.6x0.8mm, IPC Medium Density)
footprint RESC_0603_1608M (Chip Resistor, Body 1.6x0.8mm, IPC Low Density)
footprint RESC_0603_1608L (Chip Resistor, Body 1.6x0.8mm, IPC High Density)
pins: 1, 2

## RC0603FR-0751R2L
designator R?, comment 51,2R
RC0603FR-0751R2L 0603 51.2 Ohm ±1% 1/10W 0603 SMD -55C...+155C; Manufacturer: Yageo; BOM2: 51,2 Ом ±1%, 1/10 Вт, SMD 0603, RC0603FR-0751R2L; ValueBOM: RC0603FR-0751R2L   Yageo                            (51,2 Ом ±1%, 1/10 Вт, SMD 0603, RC0603FR-0751R2L); Value: 51,2R; Part Number: RC0603FR-0751R2L; Package: 0603; BOM1: 51.2 Ohm ±1% 1/10W 0603 SMD
footprint RESC_0603_1608N (Chip Resistor, Body 1.6x0.8mm, IPC Medium Density)
footprint RESC_0603_1608M (Chip Resistor, Body 1.6x0.8mm, IPC Low Density)
footprint RESC_0603_1608L (Chip Resistor, Body 1.6x0.8mm, IPC High Density)
pins: 1, 2

## RC0603FR-0752K4L
designator R?, comment 52,4k
RC0603FR-0752K4L 0603 52.4 kOhm ±1% 1/10W 0603 SMD -55C...+155C; Manufacturer: Yageo; BOM2: 52,4 кОм ±1%, 1/10 Вт, SMD 0603, RC0603FR-0752K4L; ValueBOM: RC0603FR-0752K4L   Yageo                            (52,4 кОм ±1%, 1/10 Вт, SMD 0603, RC0603FR-0752K4L); Value: 52,4k; Part Number: RC0603FR-0752K4L; Package: 0603; BOM1: 52.4 kOhm ±1% 1/10W 0603 SMD
footprint RESC_0603_1608N (Chip Resistor, Body 1.6x0.8mm, IPC Medium Density)
footprint RESC_0603_1608M (Chip Resistor, Body 1.6x0.8mm, IPC Low Density)
footprint RESC_0603_1608L (Chip Resistor, Body 1.6x0.8mm, IPC High Density)
pins: 1, 2

## RC0603FR-0752R4L
designator R?, comment 52,4R
RC0603FR-0752R4L 0603 52.4 Ohm ±1% 1/10W 0603 SMD -55C...+155C; Manufacturer: Yageo; BOM2: 52,4 Ом ±1%, 1/10 Вт, SMD 0603, RC0603FR-0752R4L; ValueBOM: RC0603FR-0752R4L   Yageo                            (52,4 Ом ±1%, 1/10 Вт, SMD 0603, RC0603FR-0752R4L); Value: 52,4R; Part Number: RC0603FR-0752R4L; Package: 0603; BOM1: 52.4 Ohm ±1% 1/10W 0603 SMD
footprint RESC_0603_1608N (Chip Resistor, Body 1.6x0.8mm, IPC Medium Density)
footprint RESC_0603_1608M (Chip Resistor, Body 1.6x0.8mm, IPC Low Density)
footprint RESC_0603_1608L (Chip Resistor, Body 1.6x0.8mm, IPC High Density)
pins: 1, 2

## RC0603FR-0753K7L
designator R?, comment 53,7k
RC0603FR-0753K7L 0603 53.7 kOhm ±1% 1/10W 0603 SMD -55C...+155C; Manufacturer: Yageo; BOM2: 53,7 кОм ±1%, 1/10 Вт, SMD 0603, RC0603FR-0753K7L; ValueBOM: RC0603FR-0753K7L   Yageo                            (53,7 кОм ±1%, 1/10 Вт, SMD 0603, RC0603FR-0753K7L); Value: 53,7k; Part Number: RC0603FR-0753K7L; Package: 0603; BOM1: 53.7 kOhm ±1% 1/10W 0603 SMD
footprint RESC_0603_1608N (Chip Resistor, Body 1.6x0.8mm, IPC Medium Density)
footprint RESC_0603_1608M (Chip Resistor, Body 1.6x0.8mm, IPC Low Density)
footprint RESC_0603_1608L (Chip Resistor, Body 1.6x0.8mm, IPC High Density)
pins: 1, 2

## RC0603FR-0753R7L
designator R?, comment 53,7R
RC0603FR-0753R7L 0603 53.7 Ohm ±1% 1/10W 0603 SMD -55C...+155C; Manufacturer: Yageo; BOM2: 53,7 Ом ±1%, 1/10 Вт, SMD 0603, RC0603FR-0753R7L; ValueBOM: RC0603FR-0753R7L   Yageo                            (53,7 Ом ±1%, 1/10 Вт, SMD 0603, RC0603FR-0753R7L); Value: 53,7R; Part Number: RC0603FR-0753R7L; Package: 0603; BOM1: 53.7 Ohm ±1% 1/10W 0603 SMD
footprint RESC_0603_1608N (Chip Resistor, Body 1.6x0.8mm, IPC Medium Density)
footprint RESC_0603_1608M (Chip Resistor, Body 1.6x0.8mm, IPC Low Density)
footprint RESC_0603_1608L (Chip Resistor, Body 1.6x0.8mm, IPC High Density)
pins: 1, 2

## RC0603FR-0755KL
designator R?, comment 55k
RC0603FR-0755KL 0603 55 kOhm ±1% 1/10W 0603 SMD -55C...+155C; Manufacturer: Yageo; BOM2: 55 кОм ±1%, 1/10 Вт, SMD 0603, RC0603FR-0755KL; ValueBOM: RC0603FR-0755KL   Yageo                            (55 кОм ±1%, 1/10 Вт, SMD 0603, RC0603FR-0755KL); Value: 55k; Part Number: RC0603FR-0755KL; Package: 0603; BOM1: 55 kOhm ±1% 1/10W 0603 SMD
footprint RESC_0603_1608N (Chip Resistor, Body 1.6x0.8mm, IPC Medium Density)
footprint RESC_0603_1608M (Chip Resistor, Body 1.6x0.8mm, IPC Low Density)
footprint RESC_0603_1608L (Chip Resistor, Body 1.6x0.8mm, IPC High Density)
pins: 1, 2

## RC0603FR-0755RL
designator R?, comment 55R
RC0603FR-0755RL 0603 55 Ohm ±1% 1/10W 0603 SMD -55C...+155C; Manufacturer: Yageo; BOM2: 55 Ом ±1%, 1/10 Вт, SMD 0603, RC0603FR-0755RL; ValueBOM: RC0603FR-0755RL   Yageo                            (55 Ом ±1%, 1/10 Вт, SMD 0603, RC0603FR-0755RL); Value: 55R; Part Number: RC0603FR-0755RL; Package: 0603; BOM1: 55 Ohm ±1% 1/10W 0603 SMD
footprint RESC_0603_1608N (Chip Resistor, Body 1.6x0.8mm, IPC Medium Density)
footprint RESC_0603_1608M (Chip Resistor, Body 1.6x0.8mm, IPC Low Density)
footprint RESC_0603_1608L (Chip Resistor, Body 1.6x0.8mm, IPC High Density)
pins: 1, 2

## RC0603FR-0756K3L
designator R?, comment 56,3k
RC0603FR-0756K3L 0603 56.3 kOhm ±1% 1/10W 0603 SMD -55C...+155C; Manufacturer: Yageo; BOM2: 56,3 кОм ±1%, 1/10 Вт, SMD 0603, RC0603FR-0756K3L; ValueBOM: RC0603FR-0756K3L   Yageo                            (56,3 кОм ±1%, 1/10 Вт, SMD 0603, RC0603FR-0756K3L); Value: 56,3k; Part Number: RC0603FR-0756K3L; Package: 0603; BOM1: 56.3 kOhm ±1% 1/10W 0603 SMD
footprint RESC_0603_1608N (Chip Resistor, Body 1.6x0.8mm, IPC Medium Density)
footprint RESC_0603_1608M (Chip Resistor, Body 1.6x0.8mm, IPC Low Density)
footprint RESC_0603_1608L (Chip Resistor, Body 1.6x0.8mm, IPC High Density)
pins: 1, 2

## RC0603FR-0756R3L
designator R?, comment 56,3R
RC0603FR-0756R3L 0603 56.3 Ohm ±1% 1/10W 0603 SMD -55C...+155C; Manufacturer: Yageo; BOM2: 56,3 Ом ±1%, 1/10 Вт, SMD 0603, RC0603FR-0756R3L; ValueBOM: RC0603FR-0756R3L   Yageo                            (56,3 Ом ±1%, 1/10 Вт, SMD 0603, RC0603FR-0756R3L); Value: 56,3R; Part Number: RC0603FR-0756R3L; Package: 0603; BOM1: 56.3 Ohm ±1% 1/10W 0603 SMD
footprint RESC_0603_1608N (Chip Resistor, Body 1.6x0.8mm, IPC Medium Density)
footprint RESC_0603_1608M (Chip Resistor, Body 1.6x0.8mm, IPC Low Density)
footprint RESC_0603_1608L (Chip Resistor, Body 1.6x0.8mm, IPC High Density)
pins: 1, 2

## RC0603FR-0757K7L
designator R?, comment 57,7k
RC0603FR-0757K7L 0603 57.7 kOhm ±1% 1/10W 0603 SMD -55C...+155C; Manufacturer: Yageo; BOM2: 57,7 кОм ±1%, 1/10 Вт, SMD 0603, RC0603FR-0757K7L; ValueBOM: RC0603FR-0757K7L   Yageo                            (57,7 кОм ±1%, 1/10 Вт, SMD 0603, RC0603FR-0757K7L); Value: 57,7k; Part Number: RC0603FR-0757K7L; Package: 0603; BOM1: 57.7 kOhm ±1% 1/10W 0603 SMD
footprint RESC_0603_1608N (Chip Resistor, Body 1.6x0.8mm, IPC Medium Density)
footprint RESC_0603_1608M (Chip Resistor, Body 1.6x0.8mm, IPC Low Density)
footprint RESC_0603_1608L (Chip Resistor, Body 1.6x0.8mm, IPC High Density)
pins: 1, 2

## RC0603FR-0757R7L
designator R?, comment 57,7R
RC0603FR-0757R7L 0603 57.7 Ohm ±1% 1/10W 0603 SMD -55C...+155C; Manufacturer: Yageo; BOM2: 57,7 Ом ±1%, 1/10 Вт, SMD 0603, RC0603FR-0757R7L; ValueBOM: RC0603FR-0757R7L   Yageo                            (57,7 Ом ±1%, 1/10 Вт, SMD 0603, RC0603FR-0757R7L); Value: 57,7R; Part Number: RC0603FR-0757R7L; Package: 0603; BOM1: 57.7 Ohm ±1% 1/10W 0603 SMD
footprint RESC_0603_1608N (Chip Resistor, Body 1.6x0.8mm, IPC Medium Density)
footprint RESC_0603_1608M (Chip Resistor, Body 1.6x0.8mm, IPC Low Density)
footprint RESC_0603_1608L (Chip Resistor, Body 1.6x0.8mm, IPC High Density)
pins: 1, 2

## RC0603FR-0759K1L
designator R?, comment 59,1k
RC0603FR-0759K1L 0603 59.1 kOhm ±1% 1/10W 0603 SMD -55C...+155C; Manufacturer: Yageo; BOM2: 59,1 кОм ±1%, 1/10 Вт, SMD 0603, RC0603FR-0759K1L; ValueBOM: RC0603FR-0759K1L   Yageo                            (59,1 кОм ±1%, 1/10 Вт, SMD 0603, RC0603FR-0759K1L); Value: 59,1k; Part Number: RC0603FR-0759K1L; Package: 0603; BOM1: 59.1 kOhm ±1% 1/10W 0603 SMD
footprint RESC_0603_1608N (Chip Resistor, Body 1.6x0.8mm, IPC Medium Density)
footprint RESC_0603_1608M (Chip Resistor, Body 1.6x0.8mm, IPC Low Density)
footprint RESC_0603_1608L (Chip Resistor, Body 1.6x0.8mm, IPC High Density)
pins: 1, 2

## RC0603FR-0759R1L
designator R?, comment 59,1R
RC0603FR-0759R1L 0603 59.1 Ohm ±1% 1/10W 0603 SMD -55C...+155C; Manufacturer: Yageo; BOM2: 59,1 Ом ±1%, 1/10 Вт, SMD 0603, RC0603FR-0759R1L; ValueBOM: RC0603FR-0759R1L   Yageo                            (59,1 Ом ±1%, 1/10 Вт, SMD 0603, RC0603FR-0759R1L); Value: 59,1R; Part Number: RC0603FR-0759R1L; Package: 0603; BOM1: 59.1 Ohm ±1% 1/10W 0603 SMD
footprint RESC_0603_1608N (Chip Resistor, Body 1.6x0.8mm, IPC Medium Density)
footprint RESC_0603_1608M (Chip Resistor, Body 1.6x0.8mm, IPC Low Density)
footprint RESC_0603_1608L (Chip Resistor, Body 1.6x0.8mm, IPC High Density)
pins: 1, 2

## RC0603FR-0760K5L
designator R?, comment 60,5k
RC0603FR-0760K5L 0603 60.5 kOhm ±1% 1/10W 0603 SMD -55C...+155C; Manufacturer: Yageo; BOM2: 60,5 кОм ±1%, 1/10 Вт, SMD 0603, RC0603FR-0760K5L; ValueBOM: RC0603FR-0760K5L   Yageo                            (60,5 кОм ±1%, 1/10 Вт, SMD 0603, RC0603FR-0760K5L); Value: 60,5k; Part Number: RC0603FR-0760K5L; Package: 0603; BOM1: 60.5 kOhm ±1% 1/10W 0603 SMD
footprint RESC_0603_1608N (Chip Resistor, Body 1.6x0.8mm, IPC Medium Density)
footprint RESC_0603_1608M (Chip Resistor, Body 1.6x0.8mm, IPC Low Density)
footprint RESC_0603_1608L (Chip Resistor, Body 1.6x0.8mm, IPC High Density)
pins: 1, 2

## RC0603FR-0760R5L
designator R?, comment 60,5R
RC0603FR-0760R5L 0603 60.5 Ohm ±1% 1/10W 0603 SMD -55C...+155C; Manufacturer: Yageo; BOM2: 60,5 Ом ±1%, 1/10 Вт, SMD 0603, RC0603FR-0760R5L; ValueBOM: RC0603FR-0760R5L   Yageo                            (60,5 Ом ±1%, 1/10 Вт, SMD 0603, RC0603FR-0760R5L); Value: 60,5R; Part Number: RC0603FR-0760R5L; Package: 0603; BOM1: 60.5 Ohm ±1% 1/10W 0603 SMD
footprint RESC_0603_1608N (Chip Resistor, Body 1.6x0.8mm, IPC Medium Density)
footprint RESC_0603_1608M (Chip Resistor, Body 1.6x0.8mm, IPC Low Density)
footprint RESC_0603_1608L (Chip Resistor, Body 1.6x0.8mm, IPC High Density)
pins: 1, 2

## RC0603FR-0761K9L
designator R?, comment 61,9k
RC0603FR-0761K9L 0603 61.9 kOhm ±1% 1/10W 0603 SMD -55C...+155C; Manufacturer: Yageo; BOM2: 61,9 кОм ±1%, 1/10 Вт, SMD 0603, RC0603FR-0761K9L; ValueBOM: RC0603FR-0761K9L   Yageo                            (61,9 кОм ±1%, 1/10 Вт, SMD 0603, RC0603FR-0761K9L); Value: 61,9k; Part Number: RC0603FR-0761K9L; Package: 0603; BOM1: 61.9 kOhm ±1% 1/10W 0603 SMD
footprint RESC_0603_1608N (Chip Resistor, Body 1.6x0.8mm, IPC Medium Density)
footprint RESC_0603_1608M (Chip Resistor, Body 1.6x0.8mm, IPC Low Density)
footprint RESC_0603_1608L (Chip Resistor, Body 1.6x0.8mm, IPC High Density)
pins: 1, 2

## RC0603FR-0761R9L
designator R?, comment 61,9R
RC0603FR-0761R9L 0603 61.9 Ohm ±1% 1/10W 0603 SMD -55C...+155C; Manufacturer: Yageo; BOM2: 61,9 Ом ±1%, 1/10 Вт, SMD 0603, RC0603FR-0761R9L; ValueBOM: RC0603FR-0761R9L   Yageo                            (61,9 Ом ±1%, 1/10 Вт, SMD 0603, RC0603FR-0761R9L); Value: 61,9R; Part Number: RC0603FR-0761R9L; Package: 0603; BOM1: 61.9 Ohm ±1% 1/10W 0603 SMD
footprint RESC_0603_1608N (Chip Resistor, Body 1.6x0.8mm, IPC Medium Density)
footprint RESC_0603_1608M (Chip Resistor, Body 1.6x0.8mm, IPC Low Density)
footprint RESC_0603_1608L (Chip Resistor, Body 1.6x0.8mm, IPC High Density)
pins: 1, 2

## RC0603FR-0763K4L
designator R?, comment 63,4k
RC0603FR-0763K4L 0603 63.4 kOhm ±1% 1/10W 0603 SMD -55C...+155C; Manufacturer: Yageo; BOM2: 63,4 кОм ±1%, 1/10 Вт, SMD 0603, RC0603FR-0763K4L; ValueBOM: RC0603FR-0763K4L   Yageo                            (63,4 кОм ±1%, 1/10 Вт, SMD 0603, RC0603FR-0763K4L); Value: 63,4k; Part Number: RC0603FR-0763K4L; Package: 0603; BOM1: 63.4 kOhm ±1% 1/10W 0603 SMD
footprint RESC_0603_1608N (Chip Resistor, Body 1.6x0.8mm, IPC Medium Density)
footprint RESC_0603_1608M (Chip Resistor, Body 1.6x0.8mm, IPC Low Density)
footprint RESC_0603_1608L (Chip Resistor, Body 1.6x0.8mm, IPC High Density)
pins: 1, 2

## RC0603FR-0763R4L
designator R?, comment 63,4R
RC0603FR-0763R4L 0603 63.4 Ohm ±1% 1/10W 0603 SMD -55C...+155C; Manufacturer: Yageo; BOM2: 63,4 Ом ±1%, 1/10 Вт, SMD 0603, RC0603FR-0763R4L; ValueBOM: RC0603FR-0763R4L   Yageo                            (63,4 Ом ±1%, 1/10 Вт, SMD 0603, RC0603FR-0763R4L); Value: 63,4R; Part Number: RC0603FR-0763R4L; Package: 0603; BOM1: 63.4 Ohm ±1% 1/10W 0603 SMD
footprint RESC_0603_1608N (Chip Resistor, Body 1.6x0.8mm, IPC Medium Density)
footprint RESC_0603_1608M (Chip Resistor, Body 1.6x0.8mm, IPC Low Density)
footprint RESC_0603_1608L (Chip Resistor, Body 1.6x0.8mm, IPC High Density)
pins: 1, 2

## RC0603FR-0764K9L
designator R?, comment 64,9k
RC0603FR-0764K9L 0603 64.9 kOhm ±1% 1/10W 0603 SMD -55C...+155C; Manufacturer: Yageo; BOM2: 64,9 кОм ±1%, 1/10 Вт, SMD 0603, RC0603FR-0764K9L; ValueBOM: RC0603FR-0764K9L   Yageo                            (64,9 кОм ±1%, 1/10 Вт, SMD 0603, RC0603FR-0764K9L); Value: 64,9k; Part Number: RC0603FR-0764K9L; Package: 0603; BOM1: 64.9 kOhm ±1% 1/10W 0603 SMD
footprint RESC_0603_1608N (Chip Resistor, Body 1.6x0.8mm, IPC Medium Density)
footprint RESC_0603_1608M (Chip Resistor, Body 1.6x0.8mm, IPC Low Density)
footprint RESC_0603_1608L (Chip Resistor, Body 1.6x0.8mm, IPC High Density)
pins: 1, 2

## RC0603FR-0764R9L
designator R?, comment 64,9R
RC0603FR-0764R9L 0603 64.9 Ohm ±1% 1/10W 0603 SMD -55C...+155C; Manufacturer: Yageo; BOM2: 64,9 Ом ±1%, 1/10 Вт, SMD 0603, RC0603FR-0764R9L; ValueBOM: RC0603FR-0764R9L   Yageo                            (64,9 Ом ±1%, 1/10 Вт, SMD 0603, RC0603FR-0764R9L); Value: 64,9R; Part Number: RC0603FR-0764R9L; Package: 0603; BOM1: 64.9 Ohm ±1% 1/10W 0603 SMD
footprint RESC_0603_1608N (Chip Resistor, Body 1.6x0.8mm, IPC Medium Density)
footprint RESC_0603_1608M (Chip Resistor, Body 1.6x0.8mm, IPC Low Density)
footprint RESC_0603_1608L (Chip Resistor, Body 1.6x0.8mm, IPC High Density)
pins: 1, 2

## RC0603FR-0766K5L
designator R?, comment 66,5k
RC0603FR-0766K5L 0603 66.5 kOhm ±1% 1/10W 0603 SMD -55C...+155C; Manufacturer: Yageo; BOM2: 66,5 кОм ±1%, 1/10 Вт, SMD 0603, RC0603FR-0766K5L; ValueBOM: RC0603FR-0766K5L   Yageo                            (66,5 кОм ±1%, 1/10 Вт, SMD 0603, RC0603FR-0766K5L); Value: 66,5k; Part Number: RC0603FR-0766K5L; Package: 0603; BOM1: 66.5 kOhm ±1% 1/10W 0603 SMD
footprint RESC_0603_1608N (Chip Resistor, Body 1.6x0.8mm, IPC Medium Density)
footprint RESC_0603_1608M (Chip Resistor, Body 1.6x0.8mm, IPC Low Density)
footprint RESC_0603_1608L (Chip Resistor, Body 1.6x0.8mm, IPC High Density)
pins: 1, 2

## RC0603FR-0766R5L
designator R?, comment 66,5R
RC0603FR-0766R5L 0603 66.5 Ohm ±1% 1/10W 0603 SMD -55C...+155C; Manufacturer: Yageo; BOM2: 66,5 Ом ±1%, 1/10 Вт, SMD 0603, RC0603FR-0766R5L; ValueBOM: RC0603FR-0766R5L   Yageo                            (66,5 Ом ±1%, 1/10 Вт, SMD 0603, RC0603FR-0766R5L); Value: 66,5R; Part Number: RC0603FR-0766R5L; Package: 0603; BOM1: 66.5 Ohm ±1% 1/10W 0603 SMD
footprint RESC_0603_1608N (Chip Resistor, Body 1.6x0.8mm, IPC Medium Density)
footprint RESC_0603_1608M (Chip Resistor, Body 1.6x0.8mm, IPC Low Density)
footprint RESC_0603_1608L (Chip Resistor, Body 1.6x0.8mm, IPC High Density)
pins: 1, 2